# Altium footprint library Converter_DCDC.PcbLib: 115 footprints (part 7 of 8)
Each footprint in its own frame and in the unit in brackets; x right, y up, seen from the top. Pads: shape width x height; smd on the part's side, far side on the other; paste and mask are expansions set on the pad; w line width, h text height; cw(c..) or ccw(c..) is an arc to the next point about the centre after c.
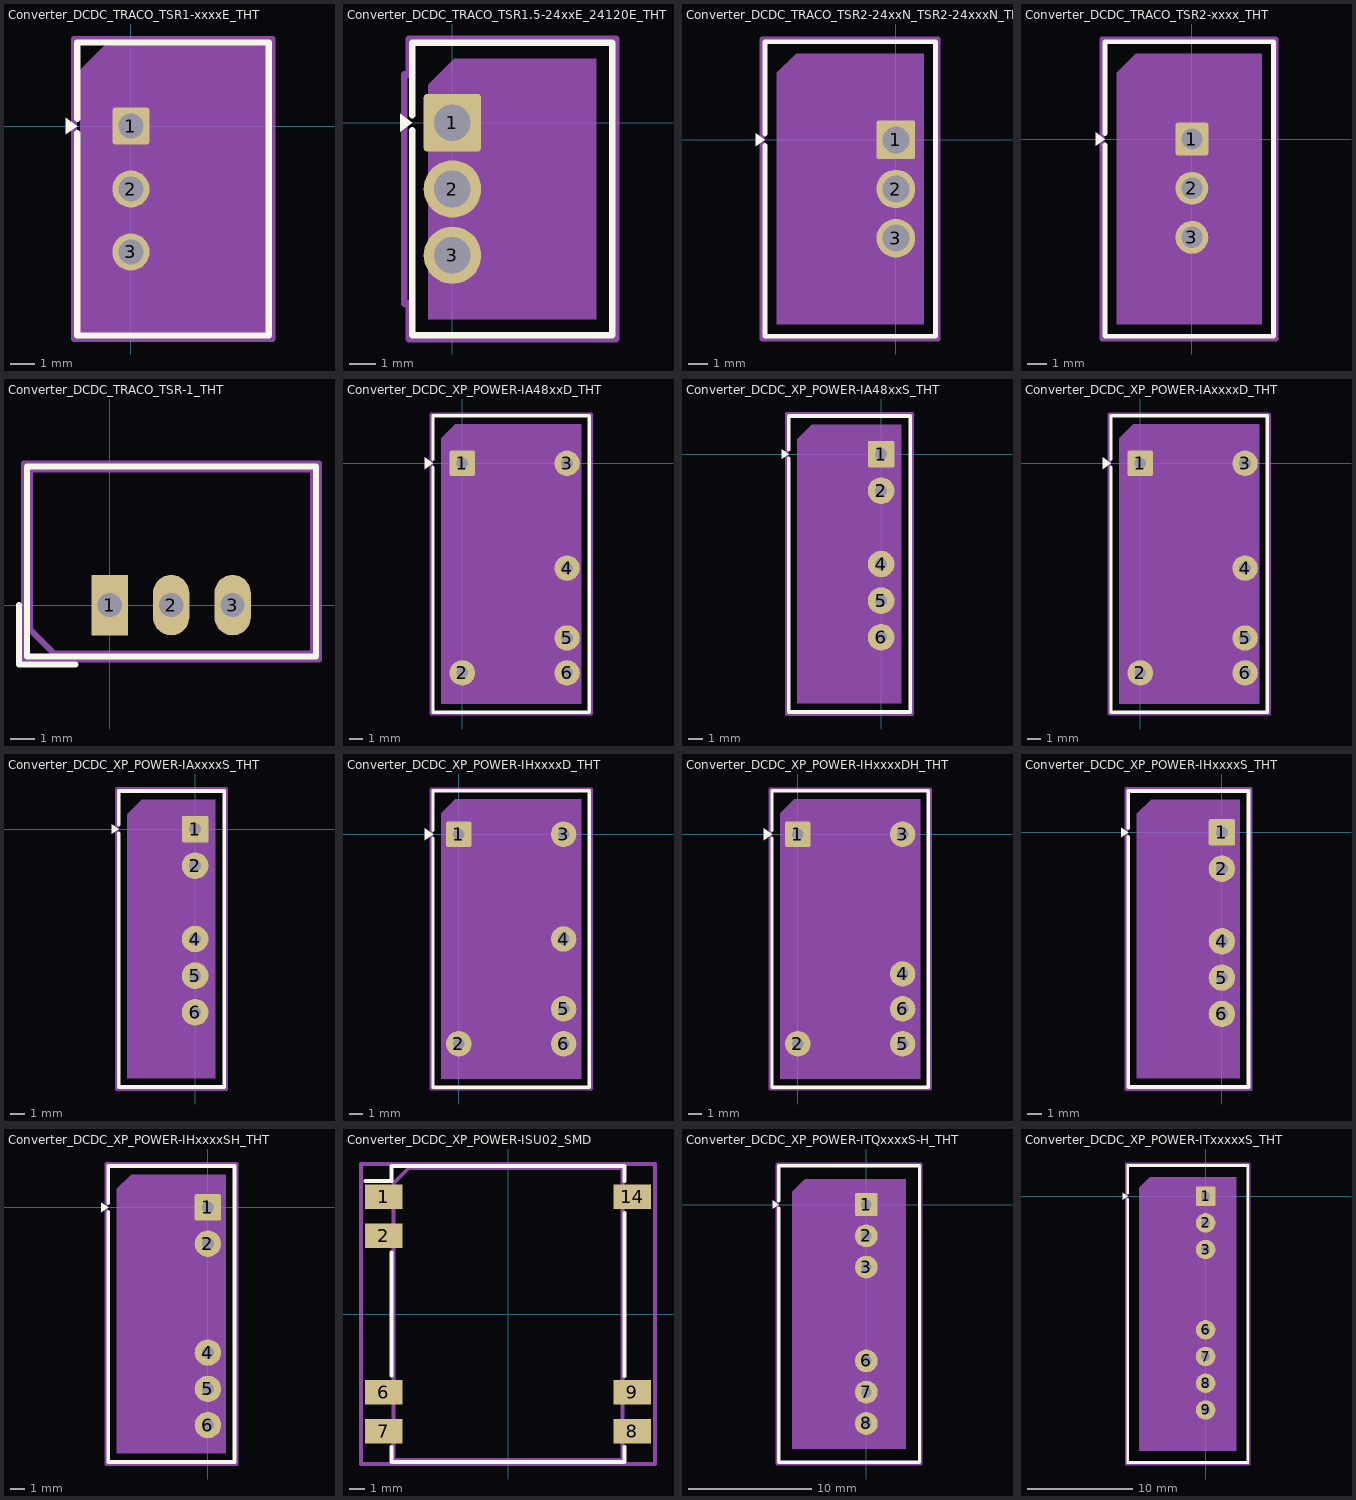
[diagram p6: the footprints below, top view; thin cyan lines are the x and y axes]

## Converter_DCDC_TRACO_TSR1-xxxxE_THT [mm]
pads (3):
  rrect17% 1.5x1.5 hole 1: 1(0,0)
  round 1.5 hole 1: 2(0,-2.54) 3(0,-5.08)
F.SilkS:
  region: -2.16,0 -2.63,-0.34 -2.63,0.34
  lines w0.254: -2.16,-0.296 -2.16,-8.45 5.56,-8.45 5.56,3.37 -2.16,3.37 -2.16,0.296
Top Assembly:
  region: 5.45,-8.34 -2.05,-8.34 -2.05,2.26 -1.05,3.26 5.45,3.26
  text "'.Designator'" at -2.347,-3.38 h1
Top Courtyard:
  lines w0.254: -2.3,-8.59 5.7,-8.59 5.7,3.51 -2.3,3.51 -2.3,-8.59
Top Designator:
  text ".Designator" at -6.019,-3.048 h1.52

## Converter_DCDC_TRACO_TSR1.5-24xxE_24120E_THT [mm]
pads (3):
  rrect11% 2.2x2.2 hole 1.4: 1(0,0)
  round 2.2 hole 1.4: 2(0,-2.54) 3(0,-5.08)
F.SilkS:
  region: -1.54,0 -2.01,-0.34 -2.01,0.34
  lines w0.254: -1.54,-0.296 -1.54,-8.15 6.13,-8.15 6.13,3.07 -1.54,3.07 -1.54,0.296
Top Assembly:
  region: 5.52,-7.54 -0.93,-7.54 -0.93,1.46 0.07,2.46 5.52,2.46
  text "'.Designator'" at -1.747,-3.38 h1
Top Courtyard:
  lines w0.254: -1.85,-6.93 -1.68,-6.93 -1.68,-8.29 6.27,-8.29 6.27,3.21 -1.68,3.21 -1.68,1.85 -1.85,1.85 -1.85,-6.93
Top Designator:
  text ".Designator" at -5.424,-3.048 h1.52

## Converter_DCDC_TRACO_TSR2-24xxN_TSR2-24xxxN_THT [mm]
pads (3):
  rrect12% 2x2 hole 1.4: 1(0,0)
  round 2 hole 1.4: 2(0,-2.54) 3(0,-5.08)
F.SilkS:
  region: -6.77,0 -7.24,-0.34 -7.24,0.34
  lines w0.254: -6.77,-0.296 -6.77,-10.15 2.05,-10.15 2.05,5.07 -6.77,5.07 -6.77,0.296
Top Assembly:
  region: 1.44,-9.54 -6.16,-9.54 -6.16,3.46 -5.16,4.46 1.44,4.46
  text "'.Designator'" at -6.407,-3.38 h1
Top Courtyard:
  lines w0.254: -6.91,-10.29 2.19,-10.29 2.19,5.21 -6.91,5.21 -6.91,-10.29
Top Designator:
  text ".Designator" at -10.079,-3.048 h1.52

## Converter_DCDC_TRACO_TSR2-xxxx_THT [mm]
pads (3):
  rrect15% 1.7x1.7 hole 1.1: 1(0,0)
  round 1.7 hole 1.1: 2(0,-2.54) 3(0,-5.08)
F.SilkS:
  region: -4.5,0 -4.97,-0.34 -4.97,0.34
  lines w0.254: -4.5,-0.296 -4.5,-10.19 4.22,-10.19 4.22,5.03 -4.5,5.03 -4.5,0.296
Top Assembly:
  region: 3.61,-9.58 -3.89,-9.58 -3.89,3.42 -2.89,4.42 3.61,4.42
  text "'.Designator'" at -4.187,-3.42 h1
Top Courtyard:
  lines w0.254: -4.64,-10.33 4.36,-10.33 4.36,5.17 -4.64,5.17 -4.64,-10.33
Top Designator:
  text ".Designator" at -7.859,-3.088 h1.52

## Converter_DCDC_TRACO_TSR-1_THT [mm]
pads (3):
  rect 1.5x2.5 hole 1: 1(0,0)
  rrect100% 1.5x2.5 hole 1: 2(2.54,0) 3(5.08,0)
F.SilkS:
  lines w0.254: -3.75,0 -3.75,-2.45 -1.42,-2.45 ; -3.42,-2.12 8.52,-2.12 8.52,5.73 -3.42,5.73 -3.42,-2.12
Top Assembly:
  lines w0.254: -3.3,-1 -2.3,-2 8.4,-2 8.4,5.6 -3.3,5.6 -3.3,-1
  text "'.Designator'" at -1.047,2.16 h1
Top Courtyard:
  lines w0.254: -3.55,-2.25 8.65,-2.25 8.65,5.85 -3.55,5.85 -3.55,-2.25
Top Designator:
  text ".Designator" at -5.168,1.192 h1.52

## Converter_DCDC_XP_POWER-IA48xxD_THT [mm]
pads (6):
  rrect14% 1.85x1.85 hole 0.85: 1(0,0)
  round 1.85 hole 0.85: 2(0,-15.24) 3(7.62,0) 4(7.62,-7.62) 5(7.62,-12.7) 6(7.62,-15.24)
F.SilkS:
  region: -2.13,0 -2.74,-0.44 -2.74,0.44
  lines w0.254: -2.13,-0.296 -2.13,-18.09 9.25,-18.09 9.25,3.45 -2.13,3.45 -2.13,0.296
Top Assembly:
  region: 8.64,-17.48 -1.52,-17.48 -1.52,1.84 -0.52,2.84 8.64,2.84
  text "'.Designator'" at -0.487,-8.16 h1
Top Courtyard:
  lines w0.254: -2.27,-18.23 9.39,-18.23 9.39,3.59 -2.27,3.59 -2.27,-18.23
Top Designator:
  text ".Designator" at -4.229,-7.828 h1.52

## Converter_DCDC_XP_POWER-IA48xxS_THT [mm]
pads (5):
  rrect14% 1.85x1.85 hole 0.85: 1(0,0)
  round 1.85 hole 0.85: 2(0,-2.54) 4(0,-7.62) 5(0,-10.16) 6(0,-12.7)
F.SilkS:
  region: -6.41,0 -6.88,-0.34 -6.88,0.34
  lines w0.254: -6.41,-0.296 -6.41,-17.88 2.01,-17.88 2.01,2.64 -6.41,2.64 -6.41,0.296
Top Assembly:
  region: 1.4,-17.27 -5.8,-17.27 -5.8,1.03 -4.8,2.03 1.4,2.03
  text "'.Designator'" at -6.247,-8.46 h1
Top Courtyard:
  lines w0.254: -6.55,-18.02 2.15,-18.02 2.15,2.78 -6.55,2.78 -6.55,-18.02
Top Designator:
  text ".Designator" at -9.919,-8.128 h1.52

## Converter_DCDC_XP_POWER-IAxxxxD_THT [mm]
pads (6):
  rrect14% 1.85x1.85 hole 0.85: 1(0,0)
  round 1.85 hole 0.85: 2(0,-15.24) 3(7.62,0) 4(7.62,-7.62) 5(7.62,-12.7) 6(7.62,-15.24)
F.SilkS:
  region: -2.13,0 -2.74,-0.44 -2.74,0.44
  lines w0.254: -2.13,-0.296 -2.13,-18.09 9.25,-18.09 9.25,3.45 -2.13,3.45 -2.13,0.296
Top Assembly:
  region: 8.64,-17.48 -1.52,-17.48 -1.52,1.84 -0.52,2.84 8.64,2.84
  text "'.Designator'" at -0.487,-8.16 h1
Top Courtyard:
  lines w0.254: -2.27,-18.23 9.39,-18.23 9.39,3.59 -2.27,3.59 -2.27,-18.23
Top Designator:
  text ".Designator" at -4.229,-7.828 h1.52

## Converter_DCDC_XP_POWER-IAxxxxS_THT [mm]
pads (5):
  rrect14% 1.85x1.85 hole 0.85: 1(0,0)
  round 1.85 hole 0.85: 2(0,-2.54) 4(0,-7.62) 5(0,-10.16) 6(0,-12.7)
F.SilkS:
  region: -5.3,0 -5.77,-0.34 -5.77,0.34
  lines w0.254: -5.3,-0.296 -5.3,-17.88 2.01,-17.88 2.01,2.64 -5.3,2.64 -5.3,0.296
Top Assembly:
  region: 1.4,-17.27 -4.69,-17.27 -4.69,1.03 -3.69,2.03 1.4,2.03
  text "'.Designator'" at -5.697,-8.46 h1
Top Courtyard:
  lines w0.254: -5.44,-18.02 2.15,-18.02 2.15,2.78 -5.44,2.78 -5.44,-18.02
Top Designator:
  text ".Designator" at -9.402,-8.128 h1.52

## Converter_DCDC_XP_POWER-IHxxxxD_THT [mm]
pads (6):
  rrect14% 1.85x1.85 hole 0.85: 1(0,0)
  round 1.85 hole 0.85: 2(0,-15.24) 3(7.62,0) 4(7.62,-7.62) 5(7.62,-12.7) 6(7.62,-15.24)
F.SilkS:
  region: -1.88,0 -2.49,-0.44 -2.49,0.44
  lines w0.254: -1.88,-0.296 -1.88,-18.39 9.5,-18.39 9.5,3.15 -1.88,3.15 -1.88,0.296
Top Assembly:
  region: 8.89,-17.78 -1.27,-17.78 -1.27,1.54 -0.27,2.54 8.89,2.54
  text "'.Designator'" at -0.237,-8.46 h1
Top Courtyard:
  lines w0.254: -2.02,-18.53 9.64,-18.53 9.64,3.29 -2.02,3.29 -2.02,-18.53
Top Designator:
  text ".Designator" at -3.979,-8.128 h1.52

## Converter_DCDC_XP_POWER-IHxxxxDH_THT [mm]
pads (6):
  rrect14% 1.85x1.85 hole 0.85: 1(0,0)
  round 1.85 hole 0.85: 2(0,-15.24) 3(7.62,0) 4(7.62,-10.16) 5(7.62,-15.24) 6(7.62,-12.7)
F.SilkS:
  region: -1.88,0 -2.49,-0.44 -2.49,0.44
  lines w0.254: -1.88,-0.296 -1.88,-18.39 9.5,-18.39 9.5,3.15 -1.88,3.15 -1.88,0.296
Top Assembly:
  region: 8.89,-17.78 -1.27,-17.78 -1.27,1.54 -0.27,2.54 8.89,2.54
  text "'.Designator'" at -0.237,-8.46 h1
Top Courtyard:
  lines w0.254: -2.02,-18.53 9.64,-18.53 9.64,3.29 -2.02,3.29 -2.02,-18.53
Top Designator:
  text ".Designator" at -3.979,-8.128 h1.52

## Converter_DCDC_XP_POWER-IHxxxxS_THT [mm]
pads (5):
  rrect14% 1.85x1.85 hole 0.85: 1(0,0)
  round 1.85 hole 0.85: 2(0,-2.54) 4(0,-7.62) 5(0,-10.16) 6(0,-12.7)
F.SilkS:
  region: -6.56,0 -7.03,-0.34 -7.03,0.34
  lines w0.254: -6.56,-0.296 -6.56,-17.82 1.86,-17.82 1.86,2.9 -6.56,2.9 -6.56,0.296
Top Assembly:
  region: 1.25,-17.21 -5.95,-17.21 -5.95,1.29 -4.95,2.29 1.25,2.29
  text "'.Designator'" at -6.397,-8.3 h1
Top Courtyard:
  lines w0.254: -6.7,-17.96 2,-17.96 2,3.04 -6.7,3.04 -6.7,-17.96
Top Designator:
  text ".Designator" at -10.069,-7.968 h1.52

## Converter_DCDC_XP_POWER-IHxxxxSH_THT [mm]
pads (5):
  rrect14% 1.85x1.85 hole 0.85: 1(0,0)
  round 1.85 hole 0.85: 2(0,-2.54) 4(0,-10.16) 5(0,-12.7) 6(0,-15.24)
F.SilkS:
  region: -6.98,0 -7.45,-0.34 -7.45,0.34
  lines w0.254: -6.98,-0.296 -6.98,-17.82 1.86,-17.82 1.86,2.9 -6.98,2.9 -6.98,0.296
Top Assembly:
  region: 1.25,-17.21 -6.37,-17.21 -6.37,1.29 -5.37,2.29 1.25,2.29
  text "'.Designator'" at -6.607,-8.3 h1
Top Courtyard:
  lines w0.254: -7.12,-17.96 2,-17.96 2,3.04 -7.12,3.04 -7.12,-17.96
Top Designator:
  text ".Designator" at -10.279,-7.968 h1.52

## Converter_DCDC_XP_POWER-ISU02_SMD [mm]
pads (7):
  rect 2.45x1.6 smd: 1(-8.075,7.62) 2(-8.075,5.08) 6(-8.075,-5.08) 7(-8.075,-7.62) 8(8.075,-7.62) 9(8.075,-5.08) 14(8.075,7.62)
F.SilkS:
  lines w0.254: -9.25,8.65 -7.56,8.65 -7.56,9.61 7.56,9.61 7.56,8.65 ; -7.56,-8.65 -7.56,-9.61 7.56,-9.61 7.56,-8.65 ; -7.56,-4 -7.56,4 ; 7.56,-4.03 7.56,6.57
Top Assembly:
  lines w0.254: -7.45,-9.5 7.45,-9.5 7.45,9.5 -6.45,9.5 -7.45,8.5 -7.45,-9.5
  text "'.Designator'" at -4.047,-0.84 h1
Top Courtyard:
  lines w0.254: -9.55,-9.75 9.55,-9.75 9.55,9.75 -9.55,9.75 -9.55,-9.75
Top Designator:
  text ".Designator" at -7.618,-0.508 h1.52

## Converter_DCDC_XP_POWER-ITQxxxxS-H_THT [mm]
pads (6):
  rrect14% 1.85x1.85 hole 0.85: 1(0,0)
  round 1.85 hole 0.85: 2(0,-2.54) 3(0,-5.08) 6(0,-12.7) 7(0,-15.24) 8(0,-17.78)
F.SilkS:
  region: -7.11,0 -7.58,-0.34 -7.58,0.34
  lines w0.254: -7.11,-0.296 -7.11,-20.925 4.31,-20.925 4.31,3.145 -7.11,3.145 -7.11,0.296
Top Assembly:
  region: 3.2,-19.815 -6,-19.815 -6,1.035 -5,2.035 3.2,2.035
  text "'.Designator'" at -5.447,-9.73 h1
Top Courtyard:
  lines w0.254: -7.25,-21.07 4.45,-21.07 4.45,3.29 -7.25,3.29 -7.25,-21.07
Top Designator:
  text ".Designator" at -9.119,-9.398 h1.52

## Converter_DCDC_XP_POWER-ITxxxxxS_THT [mm]
pads (7):
  rrect14% 1.85x1.85 hole 0.85: 1(0,0)
  round 1.85 hole 0.85: 2(0,-2.54) 3(0,-5.08) 6(0,-12.7) 7(0,-15.24) 8(0,-17.78) 9(0,-20.32)
F.SilkS:
  region: -7.41,0 -7.88,-0.34 -7.88,0.34
  lines w0.254: -7.41,-0.296 -7.41,-25.31 4.01,-25.31 4.01,2.91 -7.41,2.91 -7.41,0.296
Top Assembly:
  region: 2.9,-24.2 -6.3,-24.2 -6.3,0.8 -5.3,1.8 2.9,1.8
  text "'.Designator'" at -5.747,-12.04 h1
Top Courtyard:
  lines w0.254: -7.55,-25.45 4.15,-25.45 4.15,3.05 -7.55,3.05 -7.55,-25.45
Top Designator:
  text ".Designator" at -9.419,-11.708 h1.52